# Altium integrated library Microchip Linear.IntLib: 855 symbols (part 3 of 25)
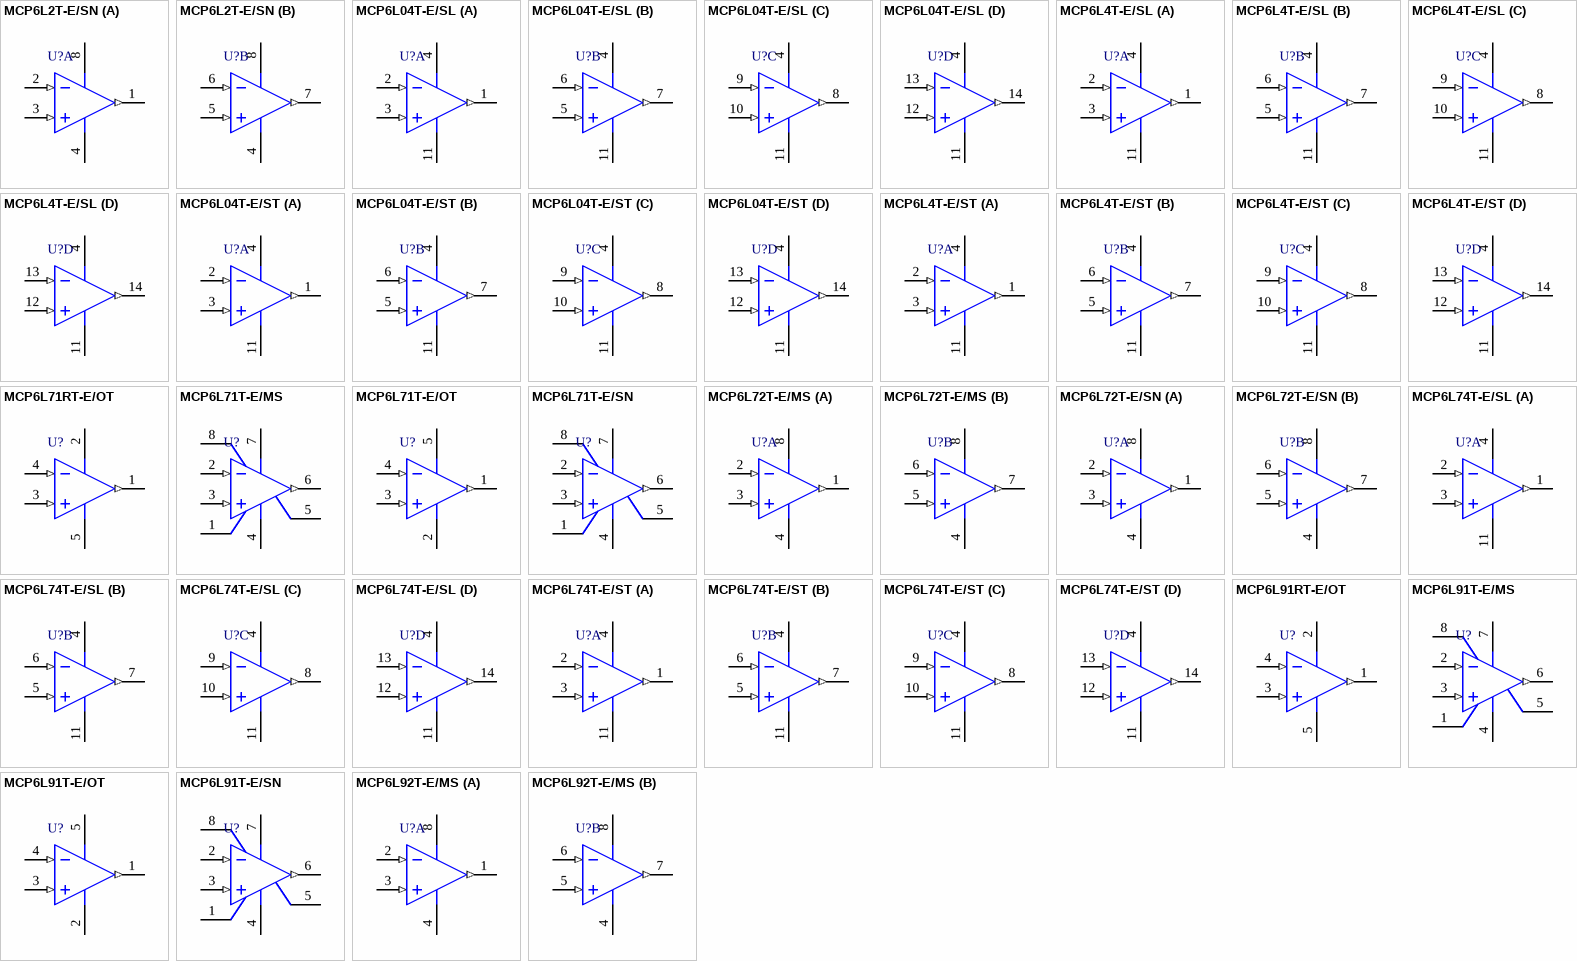
[diagram p43: symbols MCP6L2T-E/SN to MCP6L92T-E/MS]

## MCP6L71T-E/MS
designator U?
2.8 MHz, 150 µA Op Amp, 8-Pin MSOP, Extended Temperature Range, Tape and Reel; Manufacturer: Microchip; PartNumber: MCP6L71T-E/MS; DatasheetVersion: revA, Mar-2009; PackageVersion: revBB, Aug-2009; PackageReference: MSOP-MS8; PackageDescription: 8-Lead Plastic Micro Small Outline Package (MS) [MSOP]; Supplier 1: Digi-Key; Supplier Part Number 1: MCP6L71T-E/MSTR-ND; Supplier 2: Digi-Key; Supplier Part Number 2: MCP6L71T-E/MSCT-ND; Supplier 3: Digi-Key; Supplier Part Number 3: MCP6L71T-E/MSDKR-ND; Supplier 4: Farnell; Supplier Part Number 4: 1852149RL; Supplier 5: Farnell; Supplier Part Number 5: 1852149; Supplier 6: Newark; Supplier Part Number 6: 08R1822; Supplier 7: Mouser; Supplier Part Number 7: 579-MCP6L71T-E/MS; Mounting Technology: Surface Mount; ComponentLink1Description: Manufacturer URL; ComponentLink1URL: http://www.microchip.com/; ComponentLink2Description: Datasheet; ComponentLink2URL: http://ww1.microchip.com/downloads/en/DeviceDoc/22145a.pdf; ComponentLink3Description: Package Specification; ComponentLink3URL: http://www.microchip.com/stellent/groups/techpub_sg/documents/packagingspec/en012702.pdf
footprint MSOP-MS8_N (TSOP, 8-Leads, Body 3x3mm, Pitch 0.65mm, IPC Medium Density)
footprint MSOP-MS8_L (TSOP, 8-Leads, Body 3x3mm, Pitch 0.65mm, IPC High Density)
footprint MSOP-MS8_M (TSOP, 8-Leads, Body 3x3mm, Pitch 0.65mm, IPC Low Density)
pins: 1 NC, 2 VIN- (in), 3 VIN+ (in), 4 VSS (power), 5 NC, 6 VOUT (out), 7 VDD (power), 8 NC

## MCP6L71T-E/OT
designator U?
2.8 MHz, 150 µA Op Amp, 5-Pin SOT-23, Extended Temperature Range, Tape and Reel; Manufacturer: Microchip; PartNumber: MCP6L71T-E/OT; DatasheetVersion: revA, Mar-2009; PackageVersion: revBB, Aug-2009; PackageReference: SOT-23-OT5; PackageDescription: 5-Lead Plastic Small Outline Transistor (OT) [SOT-23]; Supplier 1: Digi-Key; Supplier Part Number 1: MCP6L71T-E/OTTR-ND; Supplier 2: Digi-Key; Supplier Part Number 2: MCP6L71T-E/OTCT-ND; Supplier 3: Digi-Key; Supplier Part Number 3: MCP6L71T-E/OTDKR-ND; Supplier 4: Farnell; Supplier Part Number 4: 1715861; Supplier 5: Newark; Supplier Part Number 5: 08R1823; Supplier 6: Mouser; Supplier Part Number 6: 579-MCP6L71T-E/OT; Mounting Technology: Surface Mount; Code_IPC: SOT23-5; ComponentLink1Description: Manufacturer URL; ComponentLink1URL: http://www.microchip.com/; ComponentLink2Description: Datasheet; ComponentLink2URL: http://ww1.microchip.com/downloads/en/DeviceDoc/22145a.pdf; ComponentLink3Description: Package Specification; ComponentLink3URL: http://www.microchip.com/stellent/groups/techpub_sg/documents/packagingspec/en012702.pdf
footprint SOT-23-OT5_N (SOT23, 5-Leads, Body 2.9x1.6mm, Pitch 0.95mm, Lead Span 2.7mm, IPC Medium Density)
footprint SOT-23-OT5_L (SOT23, 5-Leads, Body 2.9x1.6mm, Pitch 0.95mm, Lead Span 2.7mm, IPC High Density)
footprint SOT-23-OT5_M (SOT23, 5-Leads, Body 2.9x1.6mm, Pitch 0.95mm, Lead Span 2.7mm, IPC Low Density)
pins: 1 VOUT (out), 2 VSS (power), 3 VIN+ (in), 4 VIN- (in), 5 VDD (power)

## MCP6L71T-E/SN
designator U?
2.8 MHz, 150 µA Op Amp, 8-Pin SOIC, Extended Temperature Range, Tape and Reel; Manufacturer: Microchip; PartNumber: MCP6L71T-E/SN; DatasheetVersion: revA, Mar-2009; PackageVersion: revBB, Aug-2009; PackageReference: SOIC-SN8; PackageDescription: 8-Lead Plastic Small Outline (SN) - Narrow, 3.90mm Body [SOIC]; Supplier 1: Digi-Key; Supplier Part Number 1: MCP6L71T-E/SNTR-ND; Supplier 2: Digi-Key; Supplier Part Number 2: MCP6L71T-E/SNCT-ND; Supplier 3: Digi-Key; Supplier Part Number 3: MCP6L71T-E/SNDKR-ND; Supplier 4: Farnell; Supplier Part Number 4: 1715862RL; Supplier 5: Farnell; Supplier Part Number 5: 1715862; Supplier 6: Newark; Supplier Part Number 6: 08R1824; Supplier 7: Mouser; Supplier Part Number 7: 579-MCP6L71T-E/SN; Mounting Technology: Surface Mount; Code_JEDEC: MS-012; Code_IPC: SOIC127P600-8; ComponentLink1Description: Manufacturer URL; ComponentLink1URL: http://www.microchip.com/; ComponentLink2Description: Datasheet; ComponentLink2URL: http://ww1.microchip.com/downloads/en/DeviceDoc/22145a.pdf; ComponentLink3Description: Package Specification; ComponentLink3URL: http://www.microchip.com/stellent/groups/techpub_sg/documents/packagingspec/en012702.pdf
footprint SOIC-SN8_N (SOIC, 8-Leads, Body 4.9x3.8mm, Pitch 1.27mm, IPC Medium Density)
footprint SOIC-SN8_L (SOIC, 8-Leads, Body 4.9x3.8mm, Pitch 1.27mm, IPC High Density)
footprint SOIC-SN8_M (SOIC, 8-Leads, Body 4.9x3.8mm, Pitch 1.27mm, IPC Low Density)
pins: 1 NC, 2 VIN- (in), 3 VIN+ (in), 4 VSS (power), 5 NC, 6 VOUT (out), 7 VDD (power), 8 NC

## MCP6L72T-E/MS
designator U?
2.8 MHz, 150 µA Dual Op Amp, 8-Pin MSOP, Extended Temperature Range, Tape and Reel; Manufacturer: Microchip; PartNumber: MCP6L72T-E/MS; DatasheetVersion: revA, Mar-2009; PackageVersion: revBB, Aug-2009; PackageReference: MSOP-MS8; PackageDescription: 8-Lead Plastic Micro Small Outline Package (MS) [MSOP]; Supplier 1: Digi-Key; Supplier Part Number 1: MCP6L72T-E/MSTR-ND; Supplier 2: Digi-Key; Supplier Part Number 2: MCP6L72T-E/MSCT-ND; Supplier 3: Digi-Key; Supplier Part Number 3: MCP6L72T-E/MSDKR-ND; Supplier 4: Farnell; Supplier Part Number 4: 1852150RL; Supplier 5: Farnell; Supplier Part Number 5: 1852150; Supplier 6: Newark; Supplier Part Number 6: 08R1825; Supplier 7: Mouser; Supplier Part Number 7: 579-MCP6L72T-E/MS; Mounting Technology: Surface Mount; ComponentLink1Description: Manufacturer URL; ComponentLink1URL: http://www.microchip.com/; ComponentLink2Description: Datasheet; ComponentLink2URL: http://ww1.microchip.com/downloads/en/DeviceDoc/22145a.pdf; ComponentLink3Description: Package Specification; ComponentLink3URL: http://www.microchip.com/stellent/groups/techpub_sg/documents/packagingspec/en012702.pdf
footprint MSOP-MS8_N (TSOP, 8-Leads, Body 3x3mm, Pitch 0.65mm, IPC Medium Density)
footprint MSOP-MS8_L (TSOP, 8-Leads, Body 3x3mm, Pitch 0.65mm, IPC High Density)
footprint MSOP-MS8_M (TSOP, 8-Leads, Body 3x3mm, Pitch 0.65mm, IPC Low Density)
pins on every part: 4 VSS (power), 8 VDD (power)
part A pins: 1 VOUTA (out), 2 VINA- (in), 3 VINA+ (in)
part B pins: 5 VINB+ (in), 6 VINB- (in), 7 VOUTB (out)

## MCP6L72T-E/SN
designator U?
2.8 MHz, 150 µA Dual Op Amp, 8-Pin SOIC, Extended Temperature Range, Tape and Reel; Manufacturer: Microchip; PartNumber: MCP6L72T-E/SN; DatasheetVersion: revA, Mar-2009; PackageVersion: revBB, Aug-2009; PackageReference: SOIC-SN8; PackageDescription: 8-Lead Plastic Small Outline (SN) - Narrow, 3.90mm Body [SOIC]; Supplier 1: Digi-Key; Supplier Part Number 1: MCP6L72T-E/SNTR-ND; Supplier 2: Digi-Key; Supplier Part Number 2: MCP6L72T-E/SNCT-ND; Supplier 3: Digi-Key; Supplier Part Number 3: MCP6L72T-E/SNDKR-ND; Supplier 4: Farnell; Supplier Part Number 4: 1715863; Supplier 5: Farnell; Supplier Part Number 5: 1715863RL; Supplier 6: Newark; Supplier Part Number 6: 08R1826; Supplier 7: Mouser; Supplier Part Number 7: 579-MCP6L72T-E/SN; Mounting Technology: Surface Mount; Code_JEDEC: MS-012; Code_IPC: SOIC127P600-8; ComponentLink1Description: Manufacturer URL; ComponentLink1URL: http://www.microchip.com/; ComponentLink2Description: Datasheet; ComponentLink2URL: http://ww1.microchip.com/downloads/en/DeviceDoc/22145a.pdf; ComponentLink3Description: Package Specification; ComponentLink3URL: http://www.microchip.com/stellent/groups/techpub_sg/documents/packagingspec/en012702.pdf
footprint SOIC-SN8_N (SOIC, 8-Leads, Body 4.9x3.8mm, Pitch 1.27mm, IPC Medium Density)
footprint SOIC-SN8_L (SOIC, 8-Leads, Body 4.9x3.8mm, Pitch 1.27mm, IPC High Density)
footprint SOIC-SN8_M (SOIC, 8-Leads, Body 4.9x3.8mm, Pitch 1.27mm, IPC Low Density)
pins on every part: 4 VSS (power), 8 VDD (power)
part A pins: 1 VOUTA (out), 2 VINA- (in), 3 VINA+ (in)
part B pins: 5 VINB+ (in), 6 VINB- (in), 7 VOUTB (out)

## MCP6L74T-E/SL
designator U?
2.8 MHz, 150 µA Quad Op Amp, 14-Pin SOIC, Extended Temperature Range, Tape and Reel; Manufacturer: Microchip; PartNumber: MCP6L74T-E/SL; DatasheetVersion: revA, Mar-2009; PackageVersion: revBB, Aug-2009; PackageReference: SOIC-SL14; PackageDescription: 14-Lead Plastic Small Outline (SL) - Narrow, 3.90mm Body [SOIC]; Supplier 1: Digi-Key; Supplier Part Number 1: MCP6L74T-E/SLTR-ND; Supplier 2: Digi-Key; Supplier Part Number 2: MCP6L74T-E/SLCT-ND; Supplier 3: Digi-Key; Supplier Part Number 3: MCP6L74T-E/SLDKR-ND; Supplier 4: Newark; Supplier Part Number 4: 08R1827; Supplier 5: Mouser; Supplier Part Number 5: 579-MCP6L74T-E/SL; Mounting Technology: Surface Mount; Code_JEDEC: MS-012-AB; Code_IPC: SOIC127P600-14; ComponentLink1Description: Manufacturer URL; ComponentLink1URL: http://www.microchip.com/; ComponentLink2Description: Datasheet; ComponentLink2URL: http://ww1.microchip.com/downloads/en/DeviceDoc/22145a.pdf; ComponentLink3Description: Package Specification; ComponentLink3URL: http://www.microchip.com/stellent/groups/techpub_sg/documents/packagingspec/en012702.pdf
footprint SOIC-SL14_N (SOIC, 14-Leads, Body 8.7x3.9mm, Pitch 1.27mm, IPC Medium Density)
footprint SOIC-SL14_L (SOIC, 14-Leads, Body 8.7x3.9mm, Pitch 1.27mm, IPC High Density)
footprint SOIC-SL14_M (SOIC, 14-Leads, Body 8.7x3.9mm, Pitch 1.27mm, IPC Low Density)
pins on every part: 4 VDD (power), 11 VSS (power)
part A pins: 1 VOUTA (out), 2 VINA- (in), 3 VINA+ (in)
part B pins: 5 VINB+ (in), 6 VINB- (in), 7 VOUTB (out)
part C pins: 8 VOUTC (out), 9 VINC- (in), 10 VINC+ (in)
part D pins: 12 VIND+ (in), 13 VIND- (in), 14 VOUTD (out)

## MCP6L74T-E/ST
designator U?
2.8 MHz, 150 µA Quad Op Amp, 14-Pin TSSOP, Extended Temperature Range, Tape and Reel; Manufacturer: Microchip; PartNumber: MCP6L74T-E/ST; DatasheetVersion: revA, Mar-2009; PackageVersion: revBB, Aug-2009; PackageReference: TSSOP-ST14; PackageDescription: 14-Lead Plastic Thin Shrink Small Outline (ST) - 4.4mm Body [TSSOP]; Supplier 1: Digi-Key; Supplier Part Number 1: MCP6L74T-E/STTR-ND; Supplier 2: Digi-Key; Supplier Part Number 2: MCP6L74T-E/STCT-ND; Supplier 3: Digi-Key; Supplier Part Number 3: MCP6L74T-E/STDKR-ND; Supplier 4: Farnell; Supplier Part Number 4: 1852151; Supplier 5: Farnell; Supplier Part Number 5: 1852151RL; Supplier 6: Newark; Supplier Part Number 6: 08R1828; Supplier 7: Mouser; Supplier Part Number 7: 579-MCP6L74T-E/ST; Mounting Technology: Surface Mount; ComponentLink1Description: Manufacturer URL; ComponentLink1URL: http://www.microchip.com/; ComponentLink2Description: Datasheet; ComponentLink2URL: http://ww1.microchip.com/downloads/en/DeviceDoc/22145a.pdf; ComponentLink3Description: Package Specification; ComponentLink3URL: http://www.microchip.com/stellent/groups/techpub_sg/documents/packagingspec/en012702.pdf
footprint TSSOP-ST14_N (TSOP, 14-Leads, Body 5x4.4mm, Pitch 0.65mm, IPC Medium Density)
footprint TSSOP-ST14_L (TSOP, 14-Leads, Body 5x4.4mm, Pitch 0.65mm, IPC High Density)
footprint TSSOP-ST14_M (TSOP, 14-Leads, Body 5x4.4mm, Pitch 0.65mm, IPC Low Density)
pins on every part: 4 VDD (power), 11 VSS (power)
part A pins: 1 VOUTA (out), 2 VINA- (in), 3 VINA+ (in)
part B pins: 5 VINB+ (in), 6 VINB- (in), 7 VOUTB (out)
part C pins: 8 VOUTC (out), 9 VINC- (in), 10 VINC+ (in)
part D pins: 12 VIND+ (in), 13 VIND- (in), 14 VOUTD (out)

## MCP6L91RT-E/OT
designator U?
10 MHz, 850 µA Op Amp, 5-Pin SOT-23, Extended Temperature Range, Tape and Reel; Manufacturer: Microchip; PartNumber: MCP6L91RT-E/OT; DatasheetVersion: revB, Sep-2011; PackageVersion: revBB, Aug-2009; PackageReference: SOT-23-OT5; PackageDescription: 5-Lead Plastic Small Outline Transistor (OT) [SOT-23]; Supplier 1: Digi-Key; Supplier Part Number 1: MCP6L91RT-E/OTTR-ND; Supplier 2: Digi-Key; Supplier Part Number 2: MCP6L91RT-E/OTCT-ND; Supplier 3: Digi-Key; Supplier Part Number 3: MCP6L91RT-E/OTDKR-ND; Supplier 4: Farnell; Supplier Part Number 4: 1852153; Supplier 5: Farnell; Supplier Part Number 5: 1852153RL; Supplier 6: Newark; Supplier Part Number 6: 08R1829; Supplier 7: Mouser; Supplier Part Number 7: 579-MCP6L91RT-E/OT; Mounting Technology: Surface Mount; Code_IPC: SOT23-5; ComponentLink1Description: Manufacturer URL; ComponentLink1URL: http://www.microchip.com/; ComponentLink2Description: Datasheet; ComponentLink2URL: http://ww1.microchip.com/downloads/en/DeviceDoc/22141b.pdf; ComponentLink3Description: Package Specification; ComponentLink3URL: http://www.microchip.com/stellent/groups/techpub_sg/documents/packagingspec/en012702.pdf
footprint SOT-23-OT5_N (SOT23, 5-Leads, Body 2.9x1.6mm, Pitch 0.95mm, Lead Span 2.7mm, IPC Medium Density)
footprint SOT-23-OT5_L (SOT23, 5-Leads, Body 2.9x1.6mm, Pitch 0.95mm, Lead Span 2.7mm, IPC High Density)
footprint SOT-23-OT5_M (SOT23, 5-Leads, Body 2.9x1.6mm, Pitch 0.95mm, Lead Span 2.7mm, IPC Low Density)
pins: 1 VOUT (out), 2 VDD (power), 3 VIN+ (in), 4 VIN- (in), 5 VSS (power)

## MCP6L91T-E/MS
designator U?
10 MHz, 850 µA Op Amp, 8-Pin MSOP, Extended Temperature Range, Tape and Reel; Manufacturer: Microchip; PartNumber: MCP6L91T-E/MS; DatasheetVersion: revB, Sep-2011; PackageVersion: revBB, Aug-2009; PackageReference: MSOP-MS8; PackageDescription: 8-Lead Plastic Micro Small Outline Package (MS) [MSOP]; Supplier 1: Digi-Key; Supplier Part Number 1: MCP6L91T-E/MSTR-ND; Supplier 2: Digi-Key; Supplier Part Number 2: MCP6L91T-E/MSCT-ND; Supplier 3: Digi-Key; Supplier Part Number 3: MCP6L91T-E/MSDKR-ND; Supplier 4: Farnell; Supplier Part Number 4: 1852154; Supplier 5: Farnell; Supplier Part Number 5: 1852154RL; Supplier 6: Newark; Supplier Part Number 6: 08R1830; Supplier 7: Mouser; Supplier Part Number 7: 579-MCP6L91T-E/MS; Mounting Technology: Surface Mount; ComponentLink1Description: Manufacturer URL; ComponentLink1URL: http://www.microchip.com/; ComponentLink2Description: Datasheet; ComponentLink2URL: http://ww1.microchip.com/downloads/en/DeviceDoc/22141b.pdf; ComponentLink3Description: Package Specification; ComponentLink3URL: http://www.microchip.com/stellent/groups/techpub_sg/documents/packagingspec/en012702.pdf
footprint MSOP-MS8_N (TSOP, 8-Leads, Body 3x3mm, Pitch 0.65mm, IPC Medium Density)
footprint MSOP-MS8_L (TSOP, 8-Leads, Body 3x3mm, Pitch 0.65mm, IPC High Density)
footprint MSOP-MS8_M (TSOP, 8-Leads, Body 3x3mm, Pitch 0.65mm, IPC Low Density)
pins: 1 NC, 2 VIN- (in), 3 VIN+ (in), 4 VSS (power), 5 NC, 6 VOUT (out), 7 VDD (power), 8 NC

## MCP6L91T-E/OT
designator U?
10 MHz, 850 µA Op Amp, 5-Pin SOT-23, Extended Temperature Range, Tape and Reel; Manufacturer: Microchip; PartNumber: MCP6L91T-E/OT; DatasheetVersion: revB, Sep-2011; PackageVersion: revBB, Aug-2009; PackageReference: SOT-23-OT5; PackageDescription: 5-Lead Plastic Small Outline Transistor (OT) [SOT-23]; Supplier 1: Digi-Key; Supplier Part Number 1: MCP6L91T-E/OTTR-ND; Supplier 2: Digi-Key; Supplier Part Number 2: MCP6L91T-E/OTCT-ND; Supplier 3: Digi-Key; Supplier Part Number 3: MCP6L91T-E/OTDKR-ND; Supplier 4: Farnell; Supplier Part Number 4: 1715865; Supplier 5: Newark; Supplier Part Number 5: 08R1831; Supplier 6: Mouser; Supplier Part Number 6: 579-MCP6L91T-E/OT; Mounting Technology: Surface Mount; Code_IPC: SOT23-5; ComponentLink1Description: Manufacturer URL; ComponentLink1URL: http://www.microchip.com/; ComponentLink2Description: Datasheet; ComponentLink2URL: http://ww1.microchip.com/downloads/en/DeviceDoc/22141b.pdf; ComponentLink3Description: Package Specification; ComponentLink3URL: http://www.microchip.com/stellent/groups/techpub_sg/documents/packagingspec/en012702.pdf
footprint SOT-23-OT5_N (SOT23, 5-Leads, Body 2.9x1.6mm, Pitch 0.95mm, Lead Span 2.7mm, IPC Medium Density)
footprint SOT-23-OT5_L (SOT23, 5-Leads, Body 2.9x1.6mm, Pitch 0.95mm, Lead Span 2.7mm, IPC High Density)
footprint SOT-23-OT5_M (SOT23, 5-Leads, Body 2.9x1.6mm, Pitch 0.95mm, Lead Span 2.7mm, IPC Low Density)
pins: 1 VOUT (out), 2 VSS (power), 3 VIN+ (in), 4 VIN- (in), 5 VDD (power)

## MCP6L91T-E/SN
designator U?
10 MHz, 850 µA Op Amp, 8-Pin SOIC, Extended Temperature Range, Tape and Reel; Manufacturer: Microchip; PartNumber: MCP6L91T-E/SN; DatasheetVersion: revB, Sep-2011; PackageVersion: revBB, Aug-2009; PackageReference: SOIC-SN8; PackageDescription: 8-Lead Plastic Small Outline (SN) - Narrow, 3.90mm Body [SOIC]; Supplier 1: Digi-Key; Supplier Part Number 1: MCP6L91T-E/SNTR-ND; Supplier 2: Digi-Key; Supplier Part Number 2: MCP6L91T-E/SNCT-ND; Supplier 3: Digi-Key; Supplier Part Number 3: MCP6L91T-E/SNDKR-ND; Supplier 4: Farnell; Supplier Part Number 4: 1715866RL; Supplier 5: Farnell; Supplier Part Number 5: 1715866; Supplier 6: Newark; Supplier Part Number 6: 08R1832; Supplier 7: Mouser; Supplier Part Number 7: 579-MCP6L91T-E/SN; Mounting Technology: Surface Mount; Code_JEDEC: MS-012; Code_IPC: SOIC127P600-8; ComponentLink1Description: Manufacturer URL; ComponentLink1URL: http://www.microchip.com/; ComponentLink2Description: Datasheet; ComponentLink2URL: http://ww1.microchip.com/downloads/en/DeviceDoc/22141b.pdf; ComponentLink3Description: Package Specification; ComponentLink3URL: http://www.microchip.com/stellent/groups/techpub_sg/documents/packagingspec/en012702.pdf
footprint SOIC-SN8_N (SOIC, 8-Leads, Body 4.9x3.8mm, Pitch 1.27mm, IPC Medium Density)
footprint SOIC-SN8_L (SOIC, 8-Leads, Body 4.9x3.8mm, Pitch 1.27mm, IPC High Density)
footprint SOIC-SN8_M (SOIC, 8-Leads, Body 4.9x3.8mm, Pitch 1.27mm, IPC Low Density)
pins: 1 NC, 2 VIN- (in), 3 VIN+ (in), 4 VSS (power), 5 NC, 6 VOUT (out), 7 VDD (power), 8 NC

## MCP6L92T-E/MS
designator U?
10 MHz, 850 µA Dual Op Amp, 8-Pin MSOP, Extended Temperature Range, Tape and Reel; Manufacturer: Microchip; PartNumber: MCP6L92T-E/MS; DatasheetVersion: revB, Sep-2011; PackageVersion: revBB, Aug-2009; PackageReference: MSOP-MS8; PackageDescription: 8-Lead Plastic Micro Small Outline Package (MS) [MSOP]; Supplier 1: Digi-Key; Supplier Part Number 1: MCP6L92T-E/MSTR-ND; Supplier 2: Digi-Key; Supplier Part Number 2: MCP6L92T-E/MSCT-ND; Supplier 3: Digi-Key; Supplier Part Number 3: MCP6L92T-E/MSDKR-ND; Supplier 4: Farnell; Supplier Part Number 4: 1852155RL; Supplier 5: Farnell; Supplier Part Number 5: 1852155; Supplier 6: Newark; Supplier Part Number 6: 08R1833; Supplier 7: Mouser; Supplier Part Number 7: 579-MCP6L92T-E/MS; Mounting Technology: Surface Mount; ComponentLink1Description: Manufacturer URL; ComponentLink1URL: http://www.microchip.com/; ComponentLink2Description: Datasheet; ComponentLink2URL: http://ww1.microchip.com/downloads/en/DeviceDoc/22141b.pdf; ComponentLink3Description: Package Specification; ComponentLink3URL: http://www.microchip.com/stellent/groups/techpub_sg/documents/packagingspec/en012702.pdf
footprint MSOP-MS8_N (TSOP, 8-Leads, Body 3x3mm, Pitch 0.65mm, IPC Medium Density)
footprint MSOP-MS8_L (TSOP, 8-Leads, Body 3x3mm, Pitch 0.65mm, IPC High Density)
footprint MSOP-MS8_M (TSOP, 8-Leads, Body 3x3mm, Pitch 0.65mm, IPC Low Density)
pins on every part: 4 VSS (power), 8 VDD (power)
part A pins: 1 VOUTA (out), 2 VINA- (in), 3 VINA+ (in)
part B pins: 5 VINB+ (in), 6 VINB- (in), 7 VOUTB (out)

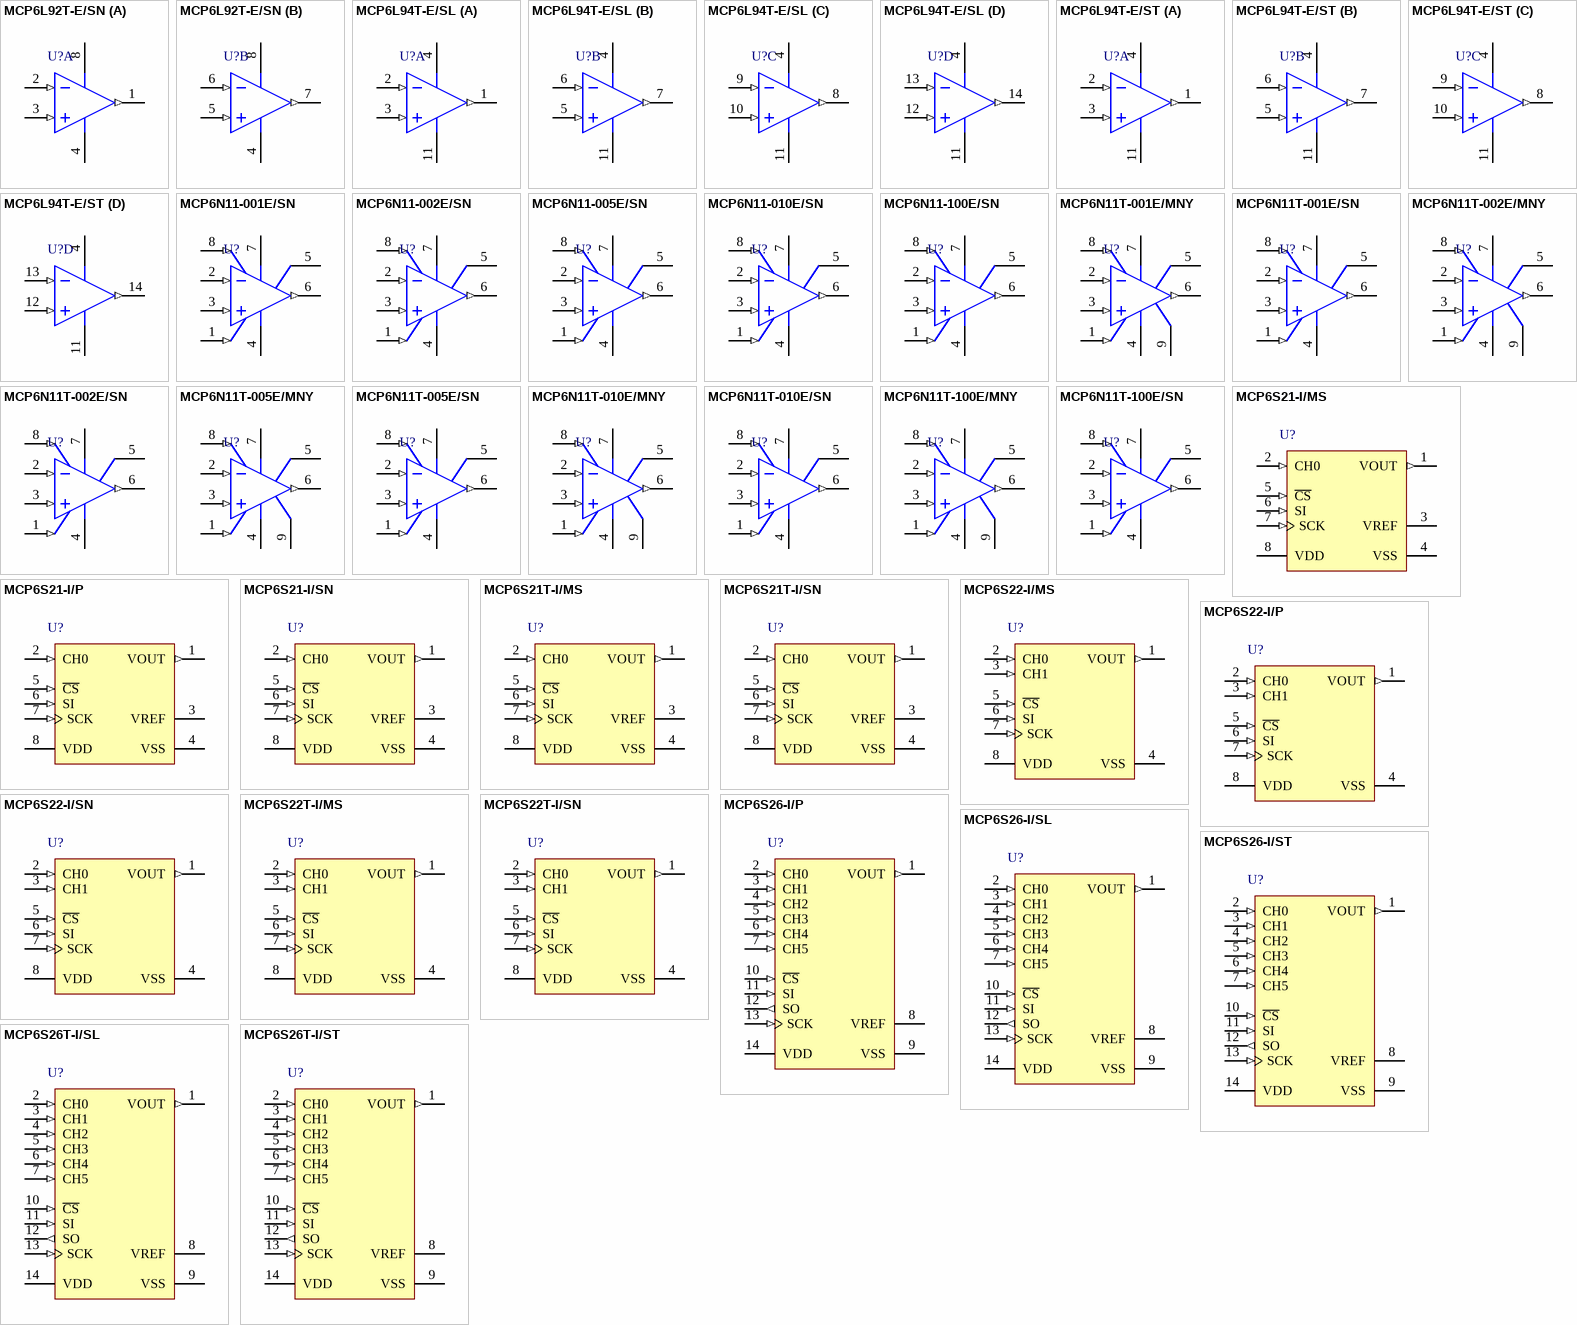
[diagram p4: symbols MCP6L92T-E/SN to MCP6S26T-I/ST]

## MCP6L92T-E/SN
designator U?
10 MHz, 850 µA Dual Op Amp, 8-Pin SOIC, Extended Temperature Range, Tape and Reel; Manufacturer: Microchip; PartNumber: MCP6L92T-E/SN; DatasheetVersion: revB, Sep-2011; PackageVersion: revBB, Aug-2009; PackageReference: SOIC-SN8; PackageDescription: 8-Lead Plastic Small Outline (SN) - Narrow, 3.90mm Body [SOIC]; Supplier 1: Digi-Key; Supplier Part Number 1: MCP6L92T-E/SNTR-ND; Supplier 2: Digi-Key; Supplier Part Number 2: MCP6L92T-E/SNCT-ND; Supplier 3: Digi-Key; Supplier Part Number 3: MCP6L92T-E/SNDKR-ND; Supplier 4: Newark; Supplier Part Number 4: 08R1834; Supplier 5: Mouser; Supplier Part Number 5: 579-MCP6L92T-E/SN; Mounting Technology: Surface Mount; Code_JEDEC: MS-012; Code_IPC: SOIC127P600-8; ComponentLink1Description: Manufacturer URL; ComponentLink1URL: http://www.microchip.com/; ComponentLink2Description: Datasheet; ComponentLink2URL: http://ww1.microchip.com/downloads/en/DeviceDoc/22141b.pdf; ComponentLink3Description: Package Specification; ComponentLink3URL: http://www.microchip.com/stellent/groups/techpub_sg/documents/packagingspec/en012702.pdf
footprint SOIC-SN8_N (SOIC, 8-Leads, Body 4.9x3.8mm, Pitch 1.27mm, IPC Medium Density)
footprint SOIC-SN8_L (SOIC, 8-Leads, Body 4.9x3.8mm, Pitch 1.27mm, IPC High Density)
footprint SOIC-SN8_M (SOIC, 8-Leads, Body 4.9x3.8mm, Pitch 1.27mm, IPC Low Density)
pins on every part: 4 VSS (power), 8 VDD (power)
part A pins: 1 VOUTA (out), 2 VINA- (in), 3 VINA+ (in)
part B pins: 5 VINB+ (in), 6 VINB- (in), 7 VOUTB (out)

## MCP6L94T-E/SL
designator U?
10 MHz, 850 µA Quad Op Amp, 14-Pin SOIC, Extended Temperature Range, Tape and Reel; Manufacturer: Microchip; PartNumber: MCP6L94T-E/SL; DatasheetVersion: revB, Sep-2011; PackageVersion: revBB, Aug-2009; PackageReference: SOIC-SL14; PackageDescription: 14-Lead Plastic Small Outline (SL) - Narrow, 3.90mm Body [SOIC]; Supplier 1: Digi-Key; Supplier Part Number 1: MCP6L94T-E/SLTR-ND; Supplier 2: Digi-Key; Supplier Part Number 2: MCP6L94T-E/SLCT-ND; Supplier 3: Digi-Key; Supplier Part Number 3: MCP6L94T-E/SLDKR-ND; Supplier 4: Farnell; Supplier Part Number 4: 1715868; Supplier 5: Farnell; Supplier Part Number 5: 1715868RL; Supplier 6: Newark; Supplier Part Number 6: 08R1835; Supplier 7: Mouser; Supplier Part Number 7: 579-MCP6L94T-E/SL; Mounting Technology: Surface Mount; Code_JEDEC: MS-012-AB; Code_IPC: SOIC127P600-14; ComponentLink1Description: Manufacturer URL; ComponentLink1URL: http://www.microchip.com/; ComponentLink2Description: Datasheet; ComponentLink2URL: http://ww1.microchip.com/downloads/en/DeviceDoc/22141b.pdf; ComponentLink3Description: Package Specification; ComponentLink3URL: http://www.microchip.com/stellent/groups/techpub_sg/documents/packagingspec/en012702.pdf
footprint SOIC-SL14_N (SOIC, 14-Leads, Body 8.7x3.9mm, Pitch 1.27mm, IPC Medium Density)
footprint SOIC-SL14_L (SOIC, 14-Leads, Body 8.7x3.9mm, Pitch 1.27mm, IPC High Density)
footprint SOIC-SL14_M (SOIC, 14-Leads, Body 8.7x3.9mm, Pitch 1.27mm, IPC Low Density)
pins on every part: 4 VDD (power), 11 VSS (power)
part A pins: 1 VOUTA (out), 2 VINA- (in), 3 VINA+ (in)
part B pins: 5 VINB+ (in), 6 VINB- (in), 7 VOUTB (out)
part C pins: 8 VOUTC (out), 9 VINC- (in), 10 VINC+ (in)
part D pins: 12 VIND+ (in), 13 VIND- (in), 14 VOUTD (out)

## MCP6L94T-E/ST
designator U?
10 MHz, 850 µA Quad Op Amp, 14-Pin TSSOP, Extended Temperature Range, Tape and Reel; Manufacturer: Microchip; PartNumber: MCP6L94T-E/ST; DatasheetVersion: revB, Sep-2011; PackageVersion: revBB, Aug-2009; PackageReference: TSSOP-ST14; PackageDescription: 14-Lead Plastic Thin Shrink Small Outline (ST) - 4.4mm Body [TSSOP]; Supplier 1: Digi-Key; Supplier Part Number 1: MCP6L94T-E/STTR-ND; Supplier 2: Digi-Key; Supplier Part Number 2: MCP6L94T-E/STCT-ND; Supplier 3: Digi-Key; Supplier Part Number 3: MCP6L94T-E/STDKR-ND; Supplier 4: Farnell; Supplier Part Number 4: 1852156; Supplier 5: Farnell; Supplier Part Number 5: 1852156RL; Supplier 6: Newark; Supplier Part Number 6: 08R1836; Supplier 7: Mouser; Supplier Part Number 7: 579-MCP6L94T-E/ST; Mounting Technology: Surface Mount; ComponentLink1Description: Manufacturer URL; ComponentLink1URL: http://www.microchip.com/; ComponentLink2Description: Datasheet; ComponentLink2URL: http://ww1.microchip.com/downloads/en/DeviceDoc/22141b.pdf; ComponentLink3Description: Package Specification; ComponentLink3URL: http://www.microchip.com/stellent/groups/techpub_sg/documents/packagingspec/en012702.pdf
footprint TSSOP-ST14_N (TSOP, 14-Leads, Body 5x4.4mm, Pitch 0.65mm, IPC Medium Density)
footprint TSSOP-ST14_L (TSOP, 14-Leads, Body 5x4.4mm, Pitch 0.65mm, IPC High Density)
footprint TSSOP-ST14_M (TSOP, 14-Leads, Body 5x4.4mm, Pitch 0.65mm, IPC Low Density)
pins on every part: 4 VDD (power), 11 VSS (power)
part A pins: 1 VOUTA (out), 2 VINA- (in), 3 VINA+ (in)
part B pins: 5 VINB+ (in), 6 VINB- (in), 7 VOUTB (out)
part C pins: 8 VOUTC (out), 9 VINC- (in), 10 VINC+ (in)
part D pins: 12 VIND+ (in), 13 VIND- (in), 14 VOUTD (out)

## MCP6N11-001E/SN
designator U?
500 kHz, 800 µA Instrumentation Amplifier, 8-Pin SOIC, Extended Temperature; Manufacturer: Microchip; PartNumber: MCP6N11-001E/SN; DatasheetVersion: revA, Oct-2011; PackageVersion: revBB, Aug-2009; PackageReference: SOIC-SN8; PackageDescription: 8-Lead Plastic Small Outline (SN) - Narrow, 3.90mm Body [SOIC]; Supplier 1: Digi-Key; Supplier Part Number 1: MCP6N11-001E/SN-ND; Supplier 2: Farnell; Supplier Part Number 2: 2065857; Supplier 3: Newark; Supplier Part Number 3: 47T5277; Supplier 4: Mouser; Supplier Part Number 4: 579-MCP6N11-001E/SN; Mounting Technology: Surface Mount; Code_JEDEC: MS-012; Code_IPC: SOIC127P600-8; ComponentLink1Description: Manufacturer URL; ComponentLink1URL: http://www.microchip.com/; ComponentLink2Description: Datasheet; ComponentLink2URL: http://ww1.microchip.com/downloads/en/DeviceDoc/25073A.pdf; ComponentLink3Description: Package Specification; ComponentLink3URL: http://www.microchip.com/stellent/groups/techpub_sg/documents/packagingspec/en012702.pdf
footprint SOIC-SN8_N (SOIC, 8-Leads, Body 4.9x3.8mm, Pitch 1.27mm, IPC Medium Density)
footprint SOIC-SN8_L (SOIC, 8-Leads, Body 4.9x3.8mm, Pitch 1.27mm, IPC High Density)
footprint SOIC-SN8_M (SOIC, 8-Leads, Body 4.9x3.8mm, Pitch 1.27mm, IPC Low Density)
pins: 1 VFG (in), 2 VIM (in), 3 VIP (in), 4 VSS (power), 5 VREF (power), 6 VOUT (out), 7 VDD (power), 8 EN/~{CAL} (in)

## MCP6N11-002E/SN
designator U?
500 kHz, 800 µA Instrumentation Amplifier, 8-Pin SOIC, Extended Temperature; Manufacturer: Microchip; PartNumber: MCP6N11-002E/SN; DatasheetVersion: revA, Oct-2011; PackageVersion: revBB, Aug-2009; PackageReference: SOIC-SN8; PackageDescription: 8-Lead Plastic Small Outline (SN) - Narrow, 3.90mm Body [SOIC]; Supplier 1: Digi-Key; Supplier Part Number 1: MCP6N11-002E/SN-ND; Supplier 2: Farnell; Supplier Part Number 2: 2065859; Supplier 3: Newark; Supplier Part Number 3: 47T5278; Supplier 4: Mouser; Supplier Part Number 4: 579-MCP6N11-002E/SN; Mounting Technology: Surface Mount; Code_JEDEC: MS-012; Code_IPC: SOIC127P600-8; ComponentLink1Description: Manufacturer URL; ComponentLink1URL: http://www.microchip.com/; ComponentLink2Description: Datasheet; ComponentLink2URL: http://ww1.microchip.com/downloads/en/DeviceDoc/25073A.pdf; ComponentLink3Description: Package Specification; ComponentLink3URL: http://www.microchip.com/stellent/groups/techpub_sg/documents/packagingspec/en012702.pdf
footprint SOIC-SN8_N (SOIC, 8-Leads, Body 4.9x3.8mm, Pitch 1.27mm, IPC Medium Density)
footprint SOIC-SN8_L (SOIC, 8-Leads, Body 4.9x3.8mm, Pitch 1.27mm, IPC High Density)
footprint SOIC-SN8_M (SOIC, 8-Leads, Body 4.9x3.8mm, Pitch 1.27mm, IPC Low Density)
pins: 1 VFG (in), 2 VIM (in), 3 VIP (in), 4 VSS (power), 5 VREF (power), 6 VOUT (out), 7 VDD (power), 8 EN/~{CAL} (in)

## MCP6N11-005E/SN
designator U?
500 kHz, 800 µA Instrumentation Amplifier, 8-Pin SOIC, Extended Temperature; Manufacturer: Microchip; PartNumber: MCP6N11-005E/SN; DatasheetVersion: revA, Oct-2011; PackageVersion: revBB, Aug-2009; PackageReference: SOIC-SN8; PackageDescription: 8-Lead Plastic Small Outline (SN) - Narrow, 3.90mm Body [SOIC]; Supplier 1: Digi-Key; Supplier Part Number 1: MCP6N11-005E/SN-ND; Supplier 2: Farnell; Supplier Part Number 2: 2065862; Supplier 3: Newark; Supplier Part Number 3: 47T5279; Supplier 4: Mouser; Supplier Part Number 4: 579-MCP6N11-005E/SN; Mounting Technology: Surface Mount; Code_JEDEC: MS-012; Code_IPC: SOIC127P600-8; ComponentLink1Description: Manufacturer URL; ComponentLink1URL: http://www.microchip.com/; ComponentLink2Description: Datasheet; ComponentLink2URL: http://ww1.microchip.com/downloads/en/DeviceDoc/25073A.pdf; ComponentLink3Description: Package Specification; ComponentLink3URL: http://www.microchip.com/stellent/groups/techpub_sg/documents/packagingspec/en012702.pdf
footprint SOIC-SN8_N (SOIC, 8-Leads, Body 4.9x3.8mm, Pitch 1.27mm, IPC Medium Density)
footprint SOIC-SN8_L (SOIC, 8-Leads, Body 4.9x3.8mm, Pitch 1.27mm, IPC High Density)
footprint SOIC-SN8_M (SOIC, 8-Leads, Body 4.9x3.8mm, Pitch 1.27mm, IPC Low Density)
pins: 1 VFG (in), 2 VIM (in), 3 VIP (in), 4 VSS (power), 5 VREF (power), 6 VOUT (out), 7 VDD (power), 8 EN/~{CAL} (in)

## MCP6N11-010E/SN
designator U?
500 kHz, 800 µA Instrumentation Amplifier, 8-Pin SOIC, Extended Temperature; Manufacturer: Microchip; PartNumber: MCP6N11-010E/SN; DatasheetVersion: revA, Oct-2011; PackageVersion: revBB, Aug-2009; PackageReference: SOIC-SN8; PackageDescription: 8-Lead Plastic Small Outline (SN) - Narrow, 3.90mm Body [SOIC]; Supplier 1: Digi-Key; Supplier Part Number 1: MCP6N11-010E/SN-ND; Supplier 2: Farnell; Supplier Part Number 2: 2065864; Supplier 3: Newark; Supplier Part Number 3: 47T5280; Supplier 4: Mouser; Supplier Part Number 4: 579-MCP6N11-010E/SN; Mounting Technology: Surface Mount; Code_JEDEC: MS-012; Code_IPC: SOIC127P600-8; ComponentLink1Description: Manufacturer URL; ComponentLink1URL: http://www.microchip.com/; ComponentLink2Description: Datasheet; ComponentLink2URL: http://ww1.microchip.com/downloads/en/DeviceDoc/25073A.pdf; ComponentLink3Description: Package Specification; ComponentLink3URL: http://www.microchip.com/stellent/groups/techpub_sg/documents/packagingspec/en012702.pdf
footprint SOIC-SN8_N (SOIC, 8-Leads, Body 4.9x3.8mm, Pitch 1.27mm, IPC Medium Density)
footprint SOIC-SN8_L (SOIC, 8-Leads, Body 4.9x3.8mm, Pitch 1.27mm, IPC High Density)
footprint SOIC-SN8_M (SOIC, 8-Leads, Body 4.9x3.8mm, Pitch 1.27mm, IPC Low Density)
pins: 1 VFG (in), 2 VIM (in), 3 VIP (in), 4 VSS (power), 5 VREF (power), 6 VOUT (out), 7 VDD (power), 8 EN/~{CAL} (in)

## MCP6N11-100E/SN
designator U?
500 kHz, 800 µA Instrumentation Amplifier, 8-Pin SOIC, Extended Temperature; Manufacturer: Microchip; PartNumber: MCP6N11-100E/SN; DatasheetVersion: revA, Oct-2011; PackageVersion: revBB, Aug-2009; PackageReference: SOIC-SN8; PackageDescription: 8-Lead Plastic Small Outline (SN) - Narrow, 3.90mm Body [SOIC]; Supplier 1: Digi-Key; Supplier Part Number 1: MCP6N11-100E/SN-ND; Supplier 2: Farnell; Supplier Part Number 2: 2065866; Supplier 3: Newark; Supplier Part Number 3: 47T5281; Supplier 4: Mouser; Supplier Part Number 4: 579-MCP6N11-100E/SN; Mounting Technology: Surface Mount; Code_JEDEC: MS-012; Code_IPC: SOIC127P600-8; ComponentLink1Description: Manufacturer URL; ComponentLink1URL: http://www.microchip.com/; ComponentLink2Description: Datasheet; ComponentLink2URL: http://ww1.microchip.com/downloads/en/DeviceDoc/25073A.pdf; ComponentLink3Description: Package Specification; ComponentLink3URL: http://www.microchip.com/stellent/groups/techpub_sg/documents/packagingspec/en012702.pdf
footprint SOIC-SN8_N (SOIC, 8-Leads, Body 4.9x3.8mm, Pitch 1.27mm, IPC Medium Density)
footprint SOIC-SN8_L (SOIC, 8-Leads, Body 4.9x3.8mm, Pitch 1.27mm, IPC High Density)
footprint SOIC-SN8_M (SOIC, 8-Leads, Body 4.9x3.8mm, Pitch 1.27mm, IPC Low Density)
pins: 1 VFG (in), 2 VIM (in), 3 VIP (in), 4 VSS (power), 5 VREF (power), 6 VOUT (out), 7 VDD (power), 8 EN/~{CAL} (in)

## MCP6N11T-001E/MNY
designator U?
500 kHz, 800 µA Instrumentation Amplifier, 8-Pin TDFN, Extended Temperature, Tape and Reel; Manufacturer: Microchip; PartNumber: MCP6N11T-001E/MNY; DatasheetVersion: revA, Oct-2011; PackageVersion: revBB, Aug-2009; PackageReference: TDFN-MN8; PackageDescription: 8-Lead Plastic Dual Flat, No Lead Package (MN) - 2x3x0.75mm Body [TDFN]; Supplier 1: Digi-Key; Supplier Part Number 1: MCP6N11T-001E/MNYTR-ND; Supplier 2: Digi-Key; Supplier Part Number 2: MCP6N11T-001E/MNYCT-ND; Supplier 3: Digi-Key; Supplier Part Number 3: MCP6N11T-001E/MNYDKR-ND; Supplier 4: Farnell; Supplier Part Number 4: 2065858; Supplier 5: Newark; Supplier Part Number 5: 75T9305; Supplier 6: Mouser; Supplier Part Number 6: 579-MCP6N11T001EMNY; Mounting Technology: Surface Mount; ComponentLink1Description: Manufacturer URL; ComponentLink1URL: http://www.microchip.com/; ComponentLink2Description: Datasheet; ComponentLink2URL: http://ww1.microchip.com/downloads/en/DeviceDoc/25073A.pdf; ComponentLink3Description: Package Specification; ComponentLink3URL: http://www.microchip.com/stellent/groups/techpub_sg/documents/packagingspec/en012702.pdf
footprint TDFN-MN8 (SON, 8-Leads, Body 2x3mm, Pitch 0.5mm, Microchip Recommended)
pins: 1 VFG (in), 2 VIM (in), 3 VIP (in), 4 VSS (power), 5 VREF (power), 6 VOUT (out), 7 VDD (power), 8 EN/~{CAL} (in), 9 EP (power)

## MCP6N11T-001E/SN
designator U?
500 kHz, 800 µA Instrumentation Amplifier, 8-Pin SOIC, Extended Temperature, Tape and Reel; Manufacturer: Microchip; PartNumber: MCP6N11T-001E/SN; DatasheetVersion: revA, Oct-2011; PackageVersion: revBB, Aug-2009; PackageReference: SOIC-SN8; PackageDescription: 8-Lead Plastic Small Outline (SN) - Narrow, 3.90mm Body [SOIC]; Supplier 1: Digi-Key; Supplier Part Number 1: MCP6N11T-001E/SN-ND; Supplier 2: Mouser; Supplier Part Number 2: 579-MCP6N11T001ESN; Mounting Technology: Surface Mount; Code_JEDEC: MS-012; Code_IPC: SOIC127P600-8; ComponentLink1Description: Manufacturer URL; ComponentLink1URL: http://www.microchip.com/; ComponentLink2Description: Datasheet; ComponentLink2URL: http://ww1.microchip.com/downloads/en/DeviceDoc/25073A.pdf; ComponentLink3Description: Package Specification; ComponentLink3URL: http://www.microchip.com/stellent/groups/techpub_sg/documents/packagingspec/en012702.pdf
footprint SOIC-SN8_N (SOIC, 8-Leads, Body 4.9x3.8mm, Pitch 1.27mm, IPC Medium Density)
footprint SOIC-SN8_L (SOIC, 8-Leads, Body 4.9x3.8mm, Pitch 1.27mm, IPC High Density)
footprint SOIC-SN8_M (SOIC, 8-Leads, Body 4.9x3.8mm, Pitch 1.27mm, IPC Low Density)
pins: 1 VFG (in), 2 VIM (in), 3 VIP (in), 4 VSS (power), 5 VREF (power), 6 VOUT (out), 7 VDD (power), 8 EN/~{CAL} (in)

## MCP6N11T-002E/MNY
designator U?
500 kHz, 800 µA Instrumentation Amplifier, 8-Pin TDFN, Extended Temperature, Tape and Reel; Manufacturer: Microchip; PartNumber: MCP6N11T-002E/MNY; DatasheetVersion: revA, Oct-2011; PackageVersion: revBB, Aug-2009; PackageReference: TDFN-MN8; PackageDescription: 8-Lead Plastic Dual Flat, No Lead Package (MN) - 2x3x0.75mm Body [TDFN]; Supplier 1: Digi-Key; Supplier Part Number 1: MCP6N11T-002E/MNYTR-ND; Supplier 2: Digi-Key; Supplier Part Number 2: MCP6N11T-002E/MNYCT-ND; Supplier 3: Digi-Key; Supplier Part Number 3: MCP6N11T-002E/MNYDKR-ND; Supplier 4: Farnell; Supplier Part Number 4: 2065860; Supplier 5: Newark; Supplier Part Number 5: 75T9306; Supplier 6: Mouser; Supplier Part Number 6: 579-MCP6N11T002EMNY; Mounting Technology: Surface Mount; ComponentLink1Description: Manufacturer URL; ComponentLink1URL: http://www.microchip.com/; ComponentLink2Description: Datasheet; ComponentLink2URL: http://ww1.microchip.com/downloads/en/DeviceDoc/25073A.pdf; ComponentLink3Description: Package Specification; ComponentLink3URL: http://www.microchip.com/stellent/groups/techpub_sg/documents/packagingspec/en012702.pdf
footprint TDFN-MN8 (SON, 8-Leads, Body 2x3mm, Pitch 0.5mm, Microchip Recommended)
pins: 1 VFG (in), 2 VIM (in), 3 VIP (in), 4 VSS (power), 5 VREF (power), 6 VOUT (out), 7 VDD (power), 8 EN/~{CAL} (in), 9 EP (power)

## MCP6N11T-002E/SN
designator U?
500 kHz, 800 µA Instrumentation Amplifier, 8-Pin SOIC, Extended Temperature, Tape and Reel; Manufacturer: Microchip; PartNumber: MCP6N11T-002E/SN; DatasheetVersion: revA, Oct-2011; PackageVersion: revBB, Aug-2009; PackageReference: SOIC-SN8; PackageDescription: 8-Lead Plastic Small Outline (SN) - Narrow, 3.90mm Body [SOIC]; Supplier 1: Digi-Key; Supplier Part Number 1: MCP6N11T-002E/SN-ND; Supplier 2: Mouser; Supplier Part Number 2: 579-MCP6N11T002ESN; Mounting Technology: Surface Mount; Code_JEDEC: MS-012; Code_IPC: SOIC127P600-8; ComponentLink1Description: Manufacturer URL; ComponentLink1URL: http://www.microchip.com/; ComponentLink2Description: Datasheet; ComponentLink2URL: http://ww1.microchip.com/downloads/en/DeviceDoc/25073A.pdf; ComponentLink3Description: Package Specification; ComponentLink3URL: http://www.microchip.com/stellent/groups/techpub_sg/documents/packagingspec/en012702.pdf
footprint SOIC-SN8_N (SOIC, 8-Leads, Body 4.9x3.8mm, Pitch 1.27mm, IPC Medium Density)
footprint SOIC-SN8_L (SOIC, 8-Leads, Body 4.9x3.8mm, Pitch 1.27mm, IPC High Density)
footprint SOIC-SN8_M (SOIC, 8-Leads, Body 4.9x3.8mm, Pitch 1.27mm, IPC Low Density)
pins: 1 VFG (in), 2 VIM (in), 3 VIP (in), 4 VSS (power), 5 VREF (power), 6 VOUT (out), 7 VDD (power), 8 EN/~{CAL} (in)

## MCP6N11T-005E/MNY
designator U?
500 kHz, 800 µA Instrumentation Amplifier, 8-Pin TDFN, Extended Temperature, Tape and Reel; Manufacturer: Microchip; PartNumber: MCP6N11T-005E/MNY; DatasheetVersion: revA, Oct-2011; PackageVersion: revBB, Aug-2009; PackageReference: TDFN-MN8; PackageDescription: 8-Lead Plastic Dual Flat, No Lead Package (MN) - 2x3x0.75mm Body [TDFN]; Supplier 1: Digi-Key; Supplier Part Number 1: MCP6N11T-005E/MNYTR-ND; Supplier 2: Digi-Key; Supplier Part Number 2: MCP6N11T-005E/MNYCT-ND; Supplier 3: Digi-Key; Supplier Part Number 3: MCP6N11T-005E/MNYDKR-ND; Supplier 4: Farnell; Supplier Part Number 4: 2065863; Supplier 5: Newark; Supplier Part Number 5: 75T9307; Supplier 6: Mouser; Supplier Part Number 6: 579-MCP6N11T005EMNY; Mounting Technology: Surface Mount; ComponentLink1Description: Manufacturer URL; ComponentLink1URL: http://www.microchip.com/; ComponentLink2Description: Datasheet; ComponentLink2URL: http://ww1.microchip.com/downloads/en/DeviceDoc/25073A.pdf; ComponentLink3Description: Package Specification; ComponentLink3URL: http://www.microchip.com/stellent/groups/techpub_sg/documents/packagingspec/en012702.pdf
footprint TDFN-MN8 (SON, 8-Leads, Body 2x3mm, Pitch 0.5mm, Microchip Recommended)
pins: 1 VFG (in), 2 VIM (in), 3 VIP (in), 4 VSS (power), 5 VREF (power), 6 VOUT (out), 7 VDD (power), 8 EN/~{CAL} (in), 9 EP (power)

## MCP6N11T-005E/SN
designator U?
500 kHz, 800 µA Instrumentation Amplifier, 8-Pin SOIC, Extended Temperature, Tape and Reel; Manufacturer: Microchip; PartNumber: MCP6N11T-005E/SN; DatasheetVersion: revA, Oct-2011; PackageVersion: revBB, Aug-2009; PackageReference: SOIC-SN8; PackageDescription: 8-Lead Plastic Small Outline (SN) - Narrow, 3.90mm Body [SOIC]; Supplier 1: Digi-Key; Supplier Part Number 1: MCP6N11T-005E/SN-ND; Supplier 2: Mouser; Supplier Part Number 2: 579-MCP6N11T005ESN; Mounting Technology: Surface Mount; Code_JEDEC: MS-012; Code_IPC: SOIC127P600-8; ComponentLink1Description: Manufacturer URL; ComponentLink1URL: http://www.microchip.com/; ComponentLink2Description: Datasheet; ComponentLink2URL: http://ww1.microchip.com/downloads/en/DeviceDoc/25073A.pdf; ComponentLink3Description: Package Specification; ComponentLink3URL: http://www.microchip.com/stellent/groups/techpub_sg/documents/packagingspec/en012702.pdf
footprint SOIC-SN8_N (SOIC, 8-Leads, Body 4.9x3.8mm, Pitch 1.27mm, IPC Medium Density)
footprint SOIC-SN8_L (SOIC, 8-Leads, Body 4.9x3.8mm, Pitch 1.27mm, IPC High Density)
footprint SOIC-SN8_M (SOIC, 8-Leads, Body 4.9x3.8mm, Pitch 1.27mm, IPC Low Density)
pins: 1 VFG (in), 2 VIM (in), 3 VIP (in), 4 VSS (power), 5 VREF (power), 6 VOUT (out), 7 VDD (power), 8 EN/~{CAL} (in)

## MCP6N11T-010E/MNY
designator U?
500 kHz, 800 µA Instrumentation Amplifier, 8-Pin TDFN, Extended Temperature, Tape and Reel; Manufacturer: Microchip; PartNumber: MCP6N11T-010E/MNY; DatasheetVersion: revA, Oct-2011; PackageVersion: revBB, Aug-2009; PackageReference: TDFN-MN8; PackageDescription: 8-Lead Plastic Dual Flat, No Lead Package (MN) - 2x3x0.75mm Body [TDFN]; Supplier 1: Digi-Key; Supplier Part Number 1: MCP6N11T-010E/MNYTR-ND; Supplier 2: Digi-Key; Supplier Part Number 2: MCP6N11T-010E/MNYCT-ND; Supplier 3: Digi-Key; Supplier Part Number 3: MCP6N11T-010E/MNYDKR-ND; Supplier 4: Farnell; Supplier Part Number 4: 2065865; Supplier 5: Newark; Supplier Part Number 5: 75T9308; Supplier 6: Mouser; Supplier Part Number 6: 579-MCP6N11T010EMNY; Mounting Technology: Surface Mount; ComponentLink1Description: Manufacturer URL; ComponentLink1URL: http://www.microchip.com/; ComponentLink2Description: Datasheet; ComponentLink2URL: http://ww1.microchip.com/downloads/en/DeviceDoc/25073A.pdf; ComponentLink3Description: Package Specification; ComponentLink3URL: http://www.microchip.com/stellent/groups/techpub_sg/documents/packagingspec/en012702.pdf
footprint TDFN-MN8 (SON, 8-Leads, Body 2x3mm, Pitch 0.5mm, Microchip Recommended)
pins: 1 VFG (in), 2 VIM (in), 3 VIP (in), 4 VSS (power), 5 VREF (power), 6 VOUT (out), 7 VDD (power), 8 EN/~{CAL} (in), 9 EP (power)

## MCP6N11T-010E/SN
designator U?
500 kHz, 800 µA Instrumentation Amplifier, 8-Pin SOIC, Extended Temperature, Tape and Reel; Manufacturer: Microchip; PartNumber: MCP6N11T-010E/SN; DatasheetVersion: revA, Oct-2011; PackageVersion: revBB, Aug-2009; PackageReference: SOIC-SN8; PackageDescription: 8-Lead Plastic Small Outline (SN) - Narrow, 3.90mm Body [SOIC]; Supplier 1: Digi-Key; Supplier Part Number 1: MCP6N11T-010E/SN-ND; Supplier 2: Mouser; Supplier Part Number 2: 579-MCP6N11T010ESN; Mounting Technology: Surface Mount; Code_JEDEC: MS-012; Code_IPC: SOIC127P600-8; ComponentLink1Description: Manufacturer URL; ComponentLink1URL: http://www.microchip.com/; ComponentLink2Description: Datasheet; ComponentLink2URL: http://ww1.microchip.com/downloads/en/DeviceDoc/25073A.pdf; ComponentLink3Description: Package Specification; ComponentLink3URL: http://www.microchip.com/stellent/groups/techpub_sg/documents/packagingspec/en012702.pdf
footprint SOIC-SN8_N (SOIC, 8-Leads, Body 4.9x3.8mm, Pitch 1.27mm, IPC Medium Density)
footprint SOIC-SN8_L (SOIC, 8-Leads, Body 4.9x3.8mm, Pitch 1.27mm, IPC High Density)
footprint SOIC-SN8_M (SOIC, 8-Leads, Body 4.9x3.8mm, Pitch 1.27mm, IPC Low Density)
pins: 1 VFG (in), 2 VIM (in), 3 VIP (in), 4 VSS (power), 5 VREF (power), 6 VOUT (out), 7 VDD (power), 8 EN/~{CAL} (in)

## MCP6N11T-100E/MNY
designator U?
500 kHz, 800 µA Instrumentation Amplifier, 8-Pin TDFN, Extended Temperature, Tape and Reel; Manufacturer: Microchip; PartNumber: MCP6N11T-100E/MNY; DatasheetVersion: revA, Oct-2011; PackageVersion: revBB, Aug-2009; PackageReference: TDFN-MN8; PackageDescription: 8-Lead Plastic Dual Flat, No Lead Package (MN) - 2x3x0.75mm Body [TDFN]; Supplier 1: Digi-Key; Supplier Part Number 1: MCP6N11T-100E/MNYTR-ND; Supplier 2: Digi-Key; Supplier Part Number 2: MCP6N11T-100E/MNYCT-ND; Supplier 3: Digi-Key; Supplier Part Number 3: MCP6N11T-100E/MNYDKR-ND; Supplier 4: Farnell; Supplier Part Number 4: 2065867; Supplier 5: Newark; Supplier Part Number 5: 75T9309; Supplier 6: Mouser; Supplier Part Number 6: 579-MCP6N11T100EMNY; Mounting Technology: Surface Mount; ComponentLink1Description: Manufacturer URL; ComponentLink1URL: http://www.microchip.com/; ComponentLink2Description: Datasheet; ComponentLink2URL: http://ww1.microchip.com/downloads/en/DeviceDoc/25073A.pdf; ComponentLink3Description: Package Specification; ComponentLink3URL: http://www.microchip.com/stellent/groups/techpub_sg/documents/packagingspec/en012702.pdf
footprint TDFN-MN8 (SON, 8-Leads, Body 2x3mm, Pitch 0.5mm, Microchip Recommended)
pins: 1 VFG (in), 2 VIM (in), 3 VIP (in), 4 VSS (power), 5 VREF (power), 6 VOUT (out), 7 VDD (power), 8 EN/~{CAL} (in), 9 EP (power)

## MCP6N11T-100E/SN
designator U?
500 kHz, 800 µA Instrumentation Amplifier, 8-Pin SOIC, Extended Temperature, Tape and Reel; Manufacturer: Microchip; PartNumber: MCP6N11T-100E/SN; DatasheetVersion: revA, Oct-2011; PackageVersion: revBB, Aug-2009; PackageReference: SOIC-SN8; PackageDescription: 8-Lead Plastic Small Outline (SN) - Narrow, 3.90mm Body [SOIC]; Supplier 1: Digi-Key; Supplier Part Number 1: MCP6N11T-100E/SN-ND; Supplier 2: Mouser; Supplier Part Number 2: 579-MCP6N11T100ESN; Mounting Technology: Surface Mount; Code_JEDEC: MS-012; Code_IPC: SOIC127P600-8; ComponentLink1Description: Manufacturer URL; ComponentLink1URL: http://www.microchip.com/; ComponentLink2Description: Datasheet; ComponentLink2URL: http://ww1.microchip.com/downloads/en/DeviceDoc/25073A.pdf; ComponentLink3Description: Package Specification; ComponentLink3URL: http://www.microchip.com/stellent/groups/techpub_sg/documents/packagingspec/en012702.pdf
footprint SOIC-SN8_N (SOIC, 8-Leads, Body 4.9x3.8mm, Pitch 1.27mm, IPC Medium Density)
footprint SOIC-SN8_L (SOIC, 8-Leads, Body 4.9x3.8mm, Pitch 1.27mm, IPC High Density)
footprint SOIC-SN8_M (SOIC, 8-Leads, Body 4.9x3.8mm, Pitch 1.27mm, IPC Low Density)
pins: 1 VFG (in), 2 VIM (in), 3 VIP (in), 4 VSS (power), 5 VREF (power), 6 VOUT (out), 7 VDD (power), 8 EN/~{CAL} (in)

## MCP6S21-I/MS
designator U?
Single-Ended, Rail-to-Rail Input/Output, Low-Gain Programmable Gain Amplifier, 8-Pin MSOP, Industrial Temperature; Manufacturer: Microchip; PartNumber: MCP6S21-I/MS; DatasheetVersion: revA, Mar-2003; PackageVersion: revBB, Aug-2009; PackageReference: MSOP-MS8; PackageDescription: 8-Lead Plastic Micro Small Outline Package (MS) [MSOP]; Supplier 1: Digi-Key; Supplier Part Number 1: MCP6S21-I/MS-ND; Supplier 2: Farnell; Supplier Part Number 2: 1852157; Supplier 3: Newark; Supplier Part Number 3: 29H7141; Supplier 4: Mouser; Supplier Part Number 4: 579-MCP6S21-I/MS; Mounting Technology: Surface Mount; ComponentLink1Description: Manufacturer URL; ComponentLink1URL: http://www.microchip.com/; ComponentLink2Description: Datasheet; ComponentLink2URL: http://ww1.microchip.com/downloads/en/DeviceDoc/21117a.pdf; ComponentLink3Description: Package Specification; ComponentLink3URL: http://www.microchip.com/stellent/groups/techpub_sg/documents/packagingspec/en012702.pdf
footprint MSOP-MS8_N (TSOP, 8-Leads, Body 3x3mm, Pitch 0.65mm, IPC Medium Density)
footprint MSOP-MS8_L (TSOP, 8-Leads, Body 3x3mm, Pitch 0.65mm, IPC High Density)
footprint MSOP-MS8_M (TSOP, 8-Leads, Body 3x3mm, Pitch 0.65mm, IPC Low Density)
pins: 1 VOUT (out), 2 CH0 (in), 3 VREF (power), 4 VSS (power), 5 ~{CS} (in), 6 SI (in), 7 SCK (in), 8 VDD (power)

## MCP6S21-I/P
designator U?
Single-Ended, Rail-to-Rail Input/Output, Low-Gain Programmable Gain Amplifier, 8-Pin PDIP, Industrial Temperature; Manufacturer: Microchip; PartNumber: MCP6S21-I/P; DatasheetVersion: revA, Mar-2003; PackageVersion: revBB, Aug-2009; PackageReference: PDIP300-P8; PackageDescription: 8-Lead Plastic Dual In-Line (P) - 300 mil Body [PDIP]; Supplier 1: Digi-Key; Supplier Part Number 1: MCP6S21-I/P-ND; Supplier 2: Farnell; Supplier Part Number 2: 1439474; Supplier 3: Newark; Supplier Part Number 3: 96K3729; Supplier 4: Mouser; Supplier Part Number 4: 579-MCP6S21-I/P; Mounting Technology: Through Hole; Code_JEDEC: MS-001; ComponentLink1Description: Manufacturer URL; ComponentLink1URL: http://www.microchip.com/; ComponentLink2Description: Datasheet; ComponentLink2URL: http://ww1.microchip.com/downloads/en/DeviceDoc/21117a.pdf; ComponentLink3Description: Package Specification; ComponentLink3URL: http://www.microchip.com/stellent/groups/techpub_sg/documents/packagingspec/en012702.pdf
footprint PDIP300-P8 (DIP, 8-Leads, Row Spacing 7.62mm, Pitch 2.54mm, Body 9.5x6.6mm)
pins: 1 VOUT (out), 2 CH0 (in), 3 VREF (power), 4 VSS (power), 5 ~{CS} (in), 6 SI (in), 7 SCK (in), 8 VDD (power)

## MCP6S21-I/SN
designator U?
Single-Ended, Rail-to-Rail Input/Output, Low-Gain Programmable Gain Amplifier, 8-Pin SOIC, Industrial Temperature; Manufacturer: Microchip; PartNumber: MCP6S21-I/SN; DatasheetVersion: revA, Mar-2003; PackageVersion: revBB, Aug-2009; PackageReference: SOIC-SN8; PackageDescription: 8-Lead Plastic Small Outline (SN) - Narrow, 3.90mm Body [SOIC]; Supplier 1: Digi-Key; Supplier Part Number 1: MCP6S21-I/SN-ND; Supplier 2: Farnell; Supplier Part Number 2: 1332152; Supplier 3: Newark; Supplier Part Number 3: 29H7143; Supplier 4: Newark; Supplier Part Number 4: 34M7468; Supplier 5: Mouser; Supplier Part Number 5: 579-MCP6S21-I/SN; Mounting Technology: Surface Mount; Code_JEDEC: MS-012; Code_IPC: SOIC127P600-8; ComponentLink1Description: Manufacturer URL; ComponentLink1URL: http://www.microchip.com/; ComponentLink2Description: Datasheet; ComponentLink2URL: http://ww1.microchip.com/downloads/en/DeviceDoc/21117a.pdf; ComponentLink3Description: Package Specification; ComponentLink3URL: http://www.microchip.com/stellent/groups/techpub_sg/documents/packagingspec/en012702.pdf
footprint SOIC-SN8_N (SOIC, 8-Leads, Body 4.9x3.8mm, Pitch 1.27mm, IPC Medium Density)
footprint SOIC-SN8_L (SOIC, 8-Leads, Body 4.9x3.8mm, Pitch 1.27mm, IPC High Density)
footprint SOIC-SN8_M (SOIC, 8-Leads, Body 4.9x3.8mm, Pitch 1.27mm, IPC Low Density)
pins: 1 VOUT (out), 2 CH0 (in), 3 VREF (power), 4 VSS (power), 5 ~{CS} (in), 6 SI (in), 7 SCK (in), 8 VDD (power)

## MCP6S21T-I/MS
designator U?
Single-Ended, Rail-to-Rail Input/Output, Low-Gain Programmable Gain Amplifier, 8-Pin MSOP, Industrial Temperature, Tape and Reel; Manufacturer: Microchip; PartNumber: MCP6S21T-I/MS; DatasheetVersion: revA, Mar-2003; PackageVersion: revBB, Aug-2009; PackageReference: MSOP-MS8; PackageDescription: 8-Lead Plastic Micro Small Outline Package (MS) [MSOP]; Supplier 1: Digi-Key; Supplier Part Number 1: MCP6S21T-I/MS-ND; Supplier 2: Newark; Supplier Part Number 2: 29H7144; Supplier 3: Mouser; Supplier Part Number 3: 579-MCP6S21T-I/MS; Mounting Technology: Surface Mount; ComponentLink1Description: Manufacturer URL; ComponentLink1URL: http://www.microchip.com/; ComponentLink2Description: Datasheet; ComponentLink2URL: http://ww1.microchip.com/downloads/en/DeviceDoc/21117a.pdf; ComponentLink3Description: Package Specification; ComponentLink3URL: http://www.microchip.com/stellent/groups/techpub_sg/documents/packagingspec/en012702.pdf
footprint MSOP-MS8_N (TSOP, 8-Leads, Body 3x3mm, Pitch 0.65mm, IPC Medium Density)
footprint MSOP-MS8_L (TSOP, 8-Leads, Body 3x3mm, Pitch 0.65mm, IPC High Density)
footprint MSOP-MS8_M (TSOP, 8-Leads, Body 3x3mm, Pitch 0.65mm, IPC Low Density)
pins: 1 VOUT (out), 2 CH0 (in), 3 VREF (power), 4 VSS (power), 5 ~{CS} (in), 6 SI (in), 7 SCK (in), 8 VDD (power)